# EAGLE library part VLMRGB6112 (library VLMRGB6112)
VLMRGB6112 RGB LED Vishay
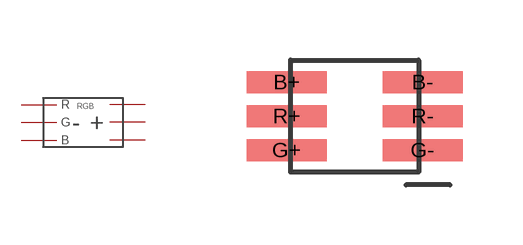
[diagram p0: symbol with the pads of PLCC-6; footprint PLCC-6]

Designator prefix RGB

## VLMRGB6112  [PLCC-6]
B+  B+
B-  B-
G+  G+
G-  G-
R+  R+
R-  R-

## Footprint PLCC-6 (pad centres in mm)
smd 2 x 0.55: B+ -1.7,0.85; B- 1.7,0.85; G+ -1.7,-0.85; G- 1.7,-0.85; R+ -1.7,0; R- 1.7,0